# EAGLE library part HEADER-1X9 (library everykey)
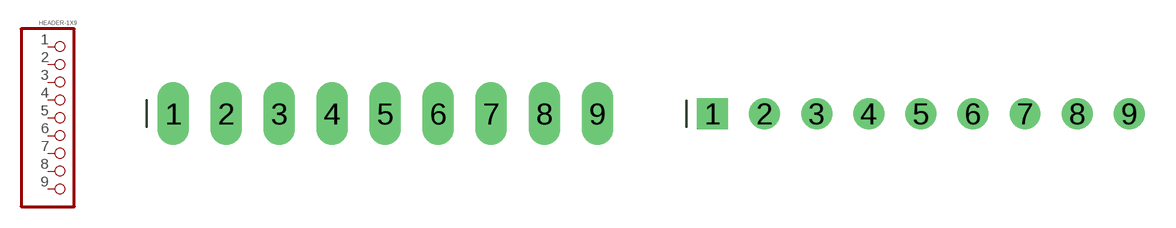
[diagram p30: symbol with the pads of 1X09_OVAL; footprints 1X09_OVAL, 1X09_ROUND]

Designator prefix P

## HEADER-1X9OVAL  [1X09_OVAL]
1  1  pas
2  2  pas
3  3  pas
4  4  pas
5  5  pas
6  6  pas
7  7  pas
8  8  pas
9  9  pas

## HEADER-1X9ROUND  [1X09_ROUND]
Pads as for 1X09_OVAL

## HEADER-1X9TE1734261-8+PAD  [TE_1734261-8]
1  1  pas
2  2  pas
3  3  pas
4  4  pas
5  5  pas
6  6  pas
7  7  pas
8  8  pas
PAD1  9  pas
PAD2  9  pas

## Footprint 1X09_OVAL (pad centres in mm)
drill 1 long: 1 -10.16,0; 2 -7.62,0; 3 -5.08,0; 4 -2.54,0; 5 0,0; 6 2.54,0; 7 5.08,0; 8 7.62,0; 9 10.16,0

## Footprint 1X09_ROUND (pad centres in mm)
drill 1 square: 1 -10.16,0
drill 1: 2 -7.62,0; 3 -5.08,0; 4 -2.54,0; 5 0,0; 6 2.54,0; 7 5.08,0; 8 7.62,0; 9 10.16,0

## Footprint TE_1734261-8 (pad centres in mm)
TE WTB header, SMD, right angle, 1.25mm pitch, 8 contacts
smd 0.8 x 1.6: 1 4.375,-1.1; 2 3.125,-1.1; 3 1.875,-1.1; 4 0.625,-1.1; 5 -0.625,-1.1; 6 -1.875,-1.1; 7 -3.125,-1.1; 8 -4.375,-1.1
smd 2.1 x 3: PAD1 -6.925,1.8; PAD2 6.925,1.8